# EAGLE library part SSSS811101 (library edrtech_lib)
Slide Switches SPDT HORZ GRND 1.5mm Source: Datasheet
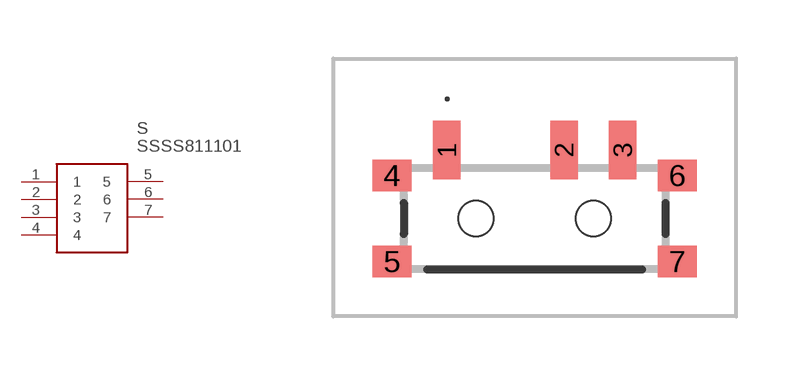
[diagram p52: symbol with the pads of SSSS811101; footprint SSSS811101]

Designator prefix S

## SSSS811101 (ARROW_PART_NUMBER: SSSS811101; ARROW_PRICE-STOCK: https://www.arrow.com/en/products/ssss811101/alps-electric; DESCRIPTION: Slide Switches SPDT HORZ GRND 1.5mm; HEIGHT: 1.6mm; MANUFACTURER_NAME: ALPS Electric; MANUFACTURER_PART_NUMBER: SSSS811101; MOUSER_PART_NUMBER: 688-SSSS811101; MOUSER_PRICE-STOCK: https://www.mouser.co.uk/ProductDetail/Alps-Alpine/SSSS811101?qs=m0BA540hBPe%2FELmLcs%2FcCA%3D%3D)  [SSSS811101]
1  1
2  2
3  3
4  4
5  5
6  6
7  7

## Footprint SSSS811101 (pad centres in mm)
SSSS811101
smd 0.7 x 1.5: 1 -2.25,1.75; 2 0.75,1.75; 3 2.25,1.75
smd 1 x 0.8: 4 -3.65,1.1; 5 -3.65,-1.1; 6 3.65,1.1; 7 3.65,-1.1
hole 0.9 at -1.5,0
hole 0.9 at 1.5,0